# Altium schematic symbol library ERJB1CFR015U.SchLib: 1 symbol
Pins are listed as number, name and electrical type; pins without a type are passive.

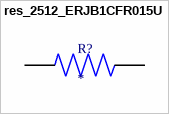
[diagram p0: symbol res_2512_ERJB1CFR015U]

## res_2512_ERJB1CFR015U
designator R?
RES 2512; MP: ERJB1CFR015U; Price: None; Value: *; Package: None; Availability: Unavailable
footprint RES_ERJB1CFR015U
pins: 1, 2